# Altium schematic symbol library MC74LVX139DTR2G.SchLib: 2 symbols
Pins are listed as number, name and electrical type; pins without a type are passive.

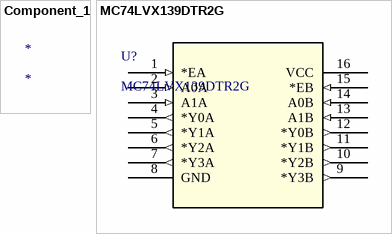
[diagram p0: symbols Component_1 to MC74LVX139DTR2G]

## Component_1
designator *

## MC74LVX139DTR2G
designator U?
No Description Available; Mfr_Name: onsemi; Manufacturer_Part_Number: MC74LVX139DTR2G; Digi-Key_Part_Number_1: MC74LVX139DTR2G-ND; Digi-Key_Part_Number_2: 2156-MC74LVX139DTR2G-OS-ND; Type: DEV; Supplier: Mouser; Link: https://www.mouser.ca/ProductDetail/onsemi/MC74LVX139DTR2G?qs=YOLdObVcOZlxCYeV3EwYHQ%3D%3D*
footprint TSSOP-16_ONS
pins: 1 *EA (in), 2 A0A (in), 3 A1A (in), 4 *Y0A (out), 5 *Y1A (out), 6 *Y2A (out), 7 *Y3A (out), 8 GND (power), 9 *Y3B (out), 10 *Y2B (out), 11 *Y1B (out), 12 *Y0B (out), 13 A1B (in), 14 A0B (in), 15 *EB (in), 16 VCC (power)